# EAGLE library part ORBIT_VOLT-REGULATOR_LM2679SX-3.3/NOPB (library ORBIT-VOLT-REGULATOR)
Voltage Regulator DC/DC CONVERTER AP1501A-12K5G-13 OUTPUT 3.3V https://www.digikey.com/product-detail/en/texas-instruments/LM2679SX-3.3-NOPB/LM2679SX-3.3-NOPBCT-ND/3526908
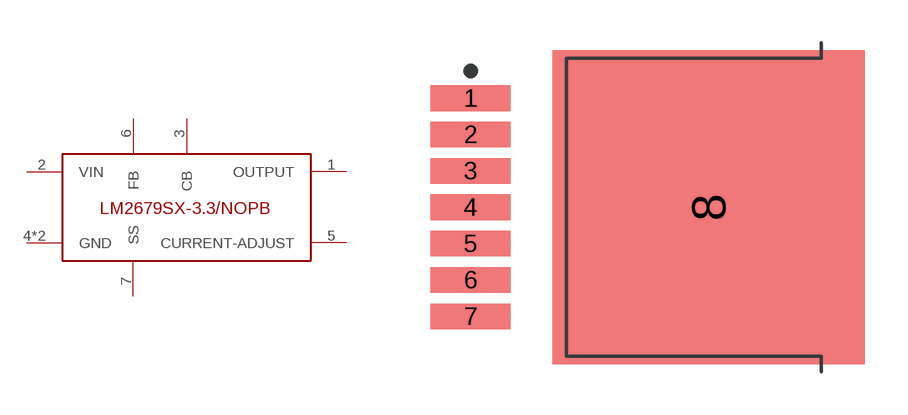
[diagram p0: symbol with the pads of TO-8; footprint TO-8]

Designator prefix -

## ORBIT_VOLT-REGULATOR_LM2679SX-3.3/NOPB  [TO-8]
1  OUTPUT  out
2  VIN  pwr
3  CB
4  GND  pwr
5  CURRENT-ADJUST  pwr
6  FB
7  SS
8  GND  pwr

## Footprint TO-8 (pad centres in mm)
8-TO, DPAK, 1.27 mm pitch, 14.35 mm span, 10.20 X 8.65 X 4.64 mm body 8-pin TO, DPAK package with 1.27 mm pitch, 14.35 mm span with body size 10.20 X 8.65 X 4.64 mm
smd 2.792 x 0.894: 1 -6.185,3.81; 2 -6.185,2.54; 3 -6.185,1.27; 4 -6.185,0; 5 -6.185,-1.27; 6 -6.185,-2.54; 7 -6.185,-3.81
smd 10.902 x 10.972: 8 2.13,0